# Altium footprint library MCB.PcbLib: 31 footprints (part 1 of 2)
Each footprint in its own frame and in the unit in brackets; x right, y up, seen from the top. Pads: shape width x height; smd on the part's side, far side on the other; paste and mask are expansions set on the pad; w line width, h text height; cw(c..) or ccw(c..) is an arc to the next point about the centre after c.
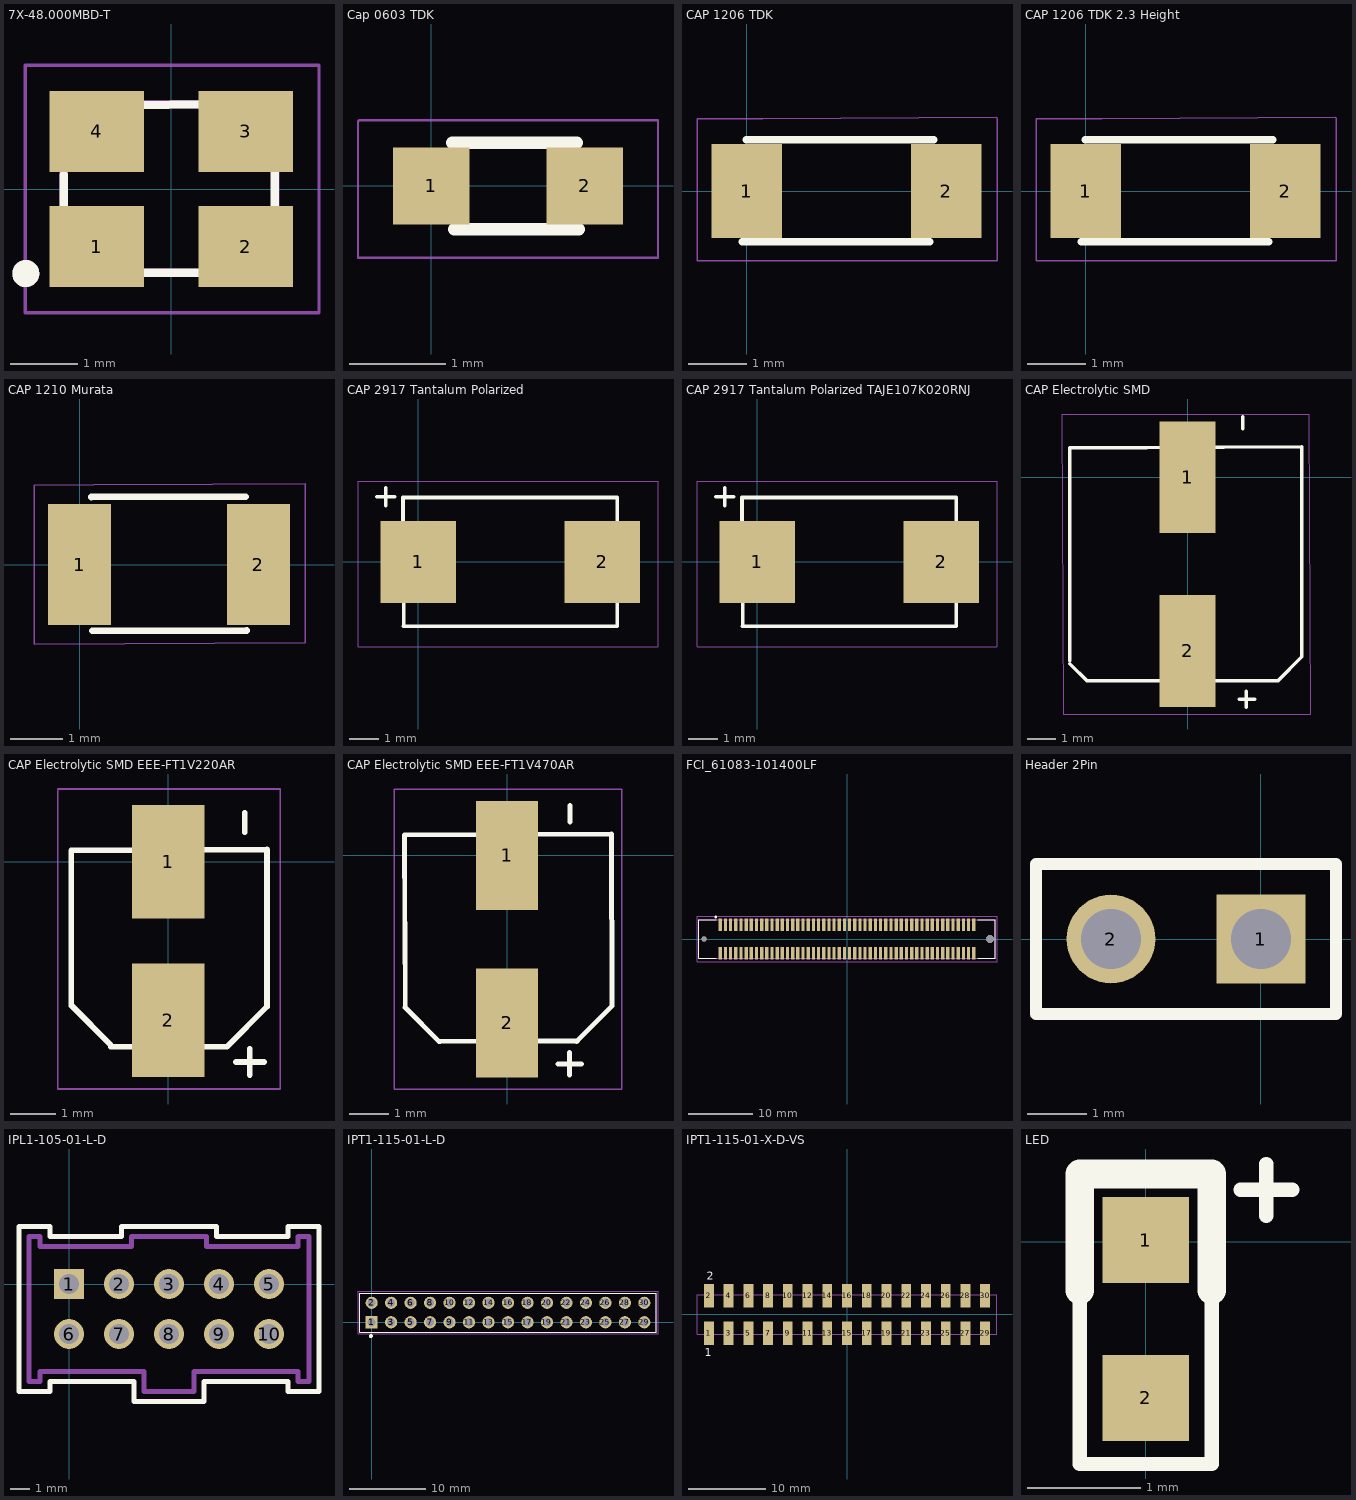
[diagram p0: the footprints below, top view; thin cyan lines are the x and y axes]

## 7X-48.000MBD-T [mm]
pads (4):
  rect 1.4x1.2 smd: 1(-1.1,-0.85) 2(1.1,-0.85) 3(1.1,0.85) 4(-1.1,0.85)
Top Overlay:
  circle w0.2: c-2.15,-1.25 r0.1
  lines w0.127: -1.59,-1.24 1.54,-1.24 ; -1.59,-0.29 -1.59,0.21 ; -1.59,1.24 1.54,1.25 ; 1.53,-0.26 1.53,0.24
Mechanical 13:
  circle w0.2: c-2.15,-1.25 r0.1
  lines w0.127: -1.59,1.24 -1.59,0.302 -1.59,-1.24 1.33,-1.24 ; -1.59,1.25 1.54,1.25 1.54,-1.21
Mechanical 15:
  lines w0.05: -2.159,-1.829 -2.159,1.829 2.184,1.829 2.184,-1.829 -2.159,-1.829
3D body: height 1, standoff 0, extent -1.59,-1.24 1.54,1.25

## Cap 0603 TDK [mm]
pads (2):
  rect 0.8x0.8 smd: 1(0,0) 2(1.6,0)
Top Overlay:
  lines w0.127: 0.22,0.45 1.52,0.45 ; 0.24,-0.45 1.54,-0.45
Mechanical 16:
  lines w0.025: -0.762,-0.749 -0.762,0.673 -0.749,0.686 -0.508,0.686 2.362,0.686 2.362,-0.749 -0.762,-0.749
3D body: height 0.9, standoff 0, extent 0.001,-0.4 1.6,0.4

## CAP 1206 TDK [mm]
pads (2):
  rect 1.2x1.6 smd: 1(0,0) 2(3.4,0)
Top Overlay:
  lines w0.127: -0.076,-0.864 3.124,-0.864 ; -0.014,0.873 3.186,0.873
Mechanical 16:
  lines w0.025: 4.267,-1.188 2.282,-1.188 -0.85,-1.188 -0.85,1.232 0.275,1.232 4.267,1.257 ; 4.267,-1.185 4.267,-0.576 4.267,0.642 4.267,1.251
3D body: height 1.9, standoff 0, extent 0,-0.8 3.2,0.8

## CAP 1206 TDK 2.3 Height [mm]
pads (2):
  rect 1.2x1.6 smd: 1(0,0) 2(3.4,0)
Top Overlay:
  lines w0.127: -0.076,-0.864 3.124,-0.864 ; -0.014,0.873 3.186,0.873
Mechanical 16:
  lines w0.025: 4.267,-1.188 2.282,-1.188 -0.85,-1.188 -0.85,1.232 0.275,1.232 4.267,1.257 ; 4.267,-1.185 4.267,-0.576 4.267,0.642 4.267,1.251
3D body: height 2.3, standoff 0, extent 0,-0.837 3.2,0.837

## CAP 1210 Murata [mm]
pads (2):
  rect 1.2x2.3 smd: 1(0,0) 2(3.4,0)
Top Overlay:
  lines w0.127: 0.225,1.285 3.16,1.29 ; 0.242,-1.255 3.177,-1.251
Mechanical 16:
  lines w0.025: -0.864,-1.512 -0.864,1.51 0.267,1.516 2.527,1.528 4.293,1.538 4.293,-1.484 -0.864,-1.512
3D body: height 2.7, standoff 0, extent 0.008,-1.25 3.2,1.25

## CAP 2917 Tantalum Polarized [mm]
pads (2):
  rect 2.55x2.77 smd: 1(0,0) 2(6.22,0)
Top Overlay:
  lines w0.127: -1.4,2.2 -0.8,2.2 ; -1.1,1.9 -1.1,2.5 ; -0.525,2.177 6.718,2.177 6.718,-2.151 ; -0.519,2.165 -0.497,-2.169 ; -0.5,-2.176 6.708,-2.175
Mechanical 16:
  lines w0.025: -2.041,-2.875 8.092,-2.875 ; -2.041,-2.869 -2.041,2.731 8.092,2.731 ; 8.098,-2.875 8.098,2.725
3D body: height 3, standoff 0, extent -0.543,-2.14 6.736,2.177

## CAP 2917 Tantalum Polarized TAJE107K020RNJ [mm]
pads (2):
  rect 2.55x2.77 smd: 1(0,0) 2(6.22,0)
Top Overlay:
  lines w0.127: -1.4,2.2 -0.8,2.2 ; -1.1,1.9 -1.1,2.5 ; -0.525,2.177 6.718,2.177 6.718,-2.151 ; -0.519,2.165 -0.497,-2.169 ; -0.5,-2.176 6.708,-2.175
Mechanical 16:
  lines w0.025: -2.041,-2.875 8.092,-2.875 ; -2.041,-2.869 -2.041,2.731 8.092,2.731 ; 8.098,-2.875 8.098,2.725
3D body: height 4.3, standoff 0, extent -0.543,-2.14 6.736,2.177

## CAP Electrolytic SMD [mm]
pads (2):
  rect 2x4 smd: 1(0,0) 2(0,-6.2)
Top Overlay:
  lines w0.025: -4.207,-6.662 -4.207,-6.56 -4.207,-6.662
  lines w0.127: -4.207,-6.662 -3.591,-7.278 3.222,-7.278 4.082,-6.418 4.082,1.088 ; -4.207,-6.56 -4.207,1.046 4.075,1.088 ; 1.84,-7.93 2.4,-7.93 ; 1.97,1.74 1.97,2.17 ; 2.087,-8.22 2.087,-7.64
Mechanical 16:
  lines w0.025: -4.493,2.261 4.32,2.261 4.377,-8.458 -4.435,-8.458 -4.493,2.261
3D body: height 0.25, standoff 0, extent -0.102,-1.194 -0.102,-1.194
3D body: height 10.5, standoff 0, extent -4.08,-7.074 3.92,0.92

## CAP Electrolytic SMD EEE-FT1V220AR [mm]
pads (2):
  rect 1.6x2.5 smd: 1(0,0) 2(0,-3.5)
Top Overlay:
  lines w0.127: -2.133,-3.177 -2.133,0.245 ; -2.126,-3.177 -1.264,-4.04 ; -2.124,0.245 2.176,0.267 ; -1.264,-4.077 1.295,-4.077 2.177,-3.196 2.177,0.261 ; 1.494,-4.414 2.111,-4.414 ; 1.688,0.646 1.688,1.076 ; 1.798,-4.704 1.798,-4.125
Mechanical 16:
  lines w0.038: -2.431,-5.011 -2.431,1.584 ; -2.431,1.6 2.468,1.6 ; -2.43,-5.011 2.47,-5.011 ; 2.468,-5.011 2.468,1.59
3D body: height 0.25, standoff 0, extent -0.102,-1.194 -0.102,-1.194
3D body: height 6, standoff 0, extent -1.949,-3.756 2.051,0.244

## CAP Electrolytic SMD EEE-FT1V470AR [mm]
pads (2):
  rect 1.6x2.8 smd: 1(0,0) 2(0,-4.3)
Top Overlay:
  lines w0.127: -2.632,0.507 -2.61,-3.902 ; -2.633,0.517 2.676,0.544 ; -2.618,-3.902 -1.741,-4.779 ; -1.72,-4.779 0.824,-4.767 ; 0.803,-4.766 1.815,-4.766 ; 1.301,-5.35 1.918,-5.35 ; 1.605,-5.64 1.605,-5.06 ; 1.612,0.852 1.612,1.282 ; 1.787,-4.773 2.678,-3.882 ; 2.675,0.549 2.697,-3.859
Mechanical 16:
  lines w0.038: -2.896,-5.994 -2.896,1.702 2.946,1.702 2.946,-5.994 -2.896,-5.994
3D body: height 0.25, standoff 0, extent -0.102,-1.194 -0.102,-1.194
3D body: height 6, standoff 0, extent -2.443,-4.59 2.557,0.404

## FCI_61083-101400LF [mm]
pads (102):
  rect 0.5x2 smd: 1(-19.6,2.2) 2(-19.6,-2.2) 3(-18.8,2.2) 4(-18.8,-2.2) 5(-18,2.2) 6(-18,-2.2) 7(-17.2,2.2) 8(-17.2,-2.2) 9(-16.4,2.2) 10(-16.4,-2.2) 11(-15.6,2.2) 12(-15.6,-2.2) 13(-14.8,2.2) 14(-14.8,-2.2) 15(-14,2.2) 16(-14,-2.2) 17(-13.2,2.2) 18(-13.2,-2.2) 19(-12.4,2.2) 20(-12.4,-2.2) 21(-11.6,2.2) 22(-11.6,-2.2) 23(-10.8,2.2) 24(-10.8,-2.2) 25(-10,2.2) 26(-10,-2.2) 27(-9.2,2.2) 28(-9.2,-2.2) 29(-8.4,2.2) 30(-8.4,-2.2) 31(-7.6,2.2) 32(-7.6,-2.2) 33(-6.8,2.2) 34(-6.8,-2.2) 35(-6,2.2) 36(-6,-2.2) 37(-5.2,2.2) 38(-5.2,-2.2) 39(-4.4,2.2) 40(-4.4,-2.2) 41(-3.6,2.2) 42(-3.6,-2.2) 43(-2.8,2.2) 44(-2.8,-2.2) 45(-2,2.2) 46(-2,-2.2) 47(-1.2,2.2) 48(-1.2,-2.2) 49(-0.4,2.2) 50(-0.4,-2.2) 51(0.4,2.2) 52(0.4,-2.2) 53(1.2,2.2) 54(1.2,-2.2) 55(2,2.2) 56(2,-2.2) 57(2.8,2.2) 58(2.8,-2.2) 59(3.6,2.2) 60(3.6,-2.2) 61(4.4,2.2) 62(4.4,-2.2) 63(5.2,2.2) 64(5.2,-2.2) 65(6,2.2) 66(6,-2.2) 67(6.8,2.2) 68(6.8,-2.2) 69(7.6,2.2) 70(7.6,-2.2) 71(8.4,2.2) 72(8.4,-2.2) 73(9.2,2.2) 74(9.2,-2.2) 75(10,2.2) 76(10,-2.2) 77(10.8,2.2) 78(10.8,-2.2) 79(11.6,2.2) 80(11.6,-2.2) 81(12.4,2.2) 82(12.4,-2.2) 83(13.2,2.2) 84(13.2,-2.2) 85(14,2.2) 86(14,-2.2) 87(14.8,2.2) 88(14.8,-2.2) 89(15.6,2.2) 90(15.6,-2.2) 91(16.4,2.2) 92(16.4,-2.2) 93(17.2,2.2) 94(17.2,-2.2) 95(18,2.2) 96(18,-2.2) 97(18.8,2.2) 98(18.8,-2.2) 99(19.6,2.2) 100(19.6,-2.2)
  round 0.8 hole 0.8 unplated: ""(-22.1,0)
  round 1.2 hole 1.2 unplated: ""(22.1,0)
Top Overlay:
  circle w0.2: c-20.3,3.4 r0.1
  lines w0.127: -20.2,-3 -22.9,-3 -22.9,3 -20.2,3 ; 20.2,-3 22.9,-3 22.9,3 20.2,3
Mechanical 13:
  lines w0.127: -22.9,-3 -22.9,3 22.9,3 22.9,-3 -22.9,-3
  text "2" at -19.771,-3.814 h0.41
  text "1" at -19.863,3.505 h0.41
Mechanical 15:
  lines w0.05: -23.2,-3.5 23.2,-3.5 23.2,3.5 -23.2,3.5 -23.2,-3.5
3D body: height 3.7, standoff 0, extent -20.091,-2.976 20.396,2.997

## Header 2Pin [mm]
pads (2):
  rect 1.5x1.5 hole 1.016: 1(0,0)
  round 1.5 hole 1.016: 2(-2.54,0)
Top Overlay:
  lines w0.2: -3.81,-1.27 1.27,-1.27 1.27,1.27 -3.81,1.27 -3.81,-1.27
3D body: height 3.05, standoff 0, extent -0.362,-0.365 0.296,0.294
3D body: height 3.05, standoff 0, extent -2.867,-0.329 -2.21,0.33
3D body: height 2.54, standoff 0, extent -3.732,-1.168 1.27,1.181
3D body: height 8.38, standoff 2.54, extent -0.405,-0.443 0.354,0.317
3D body: height 8.38, standoff 2.54, extent -2.918,-0.38 -2.159,0.38

## IPL1-105-01-L-D [mil] "Discrete wire header"
pads (10):
  rect 60x60 hole 40 mask+3: 1(0,0)
  round 60 hole 40 mask+3: 2(100,0) 3(200,0) 4(300,0) 6(0,-100) 7(100,-100) 8(200,-100) 9(300,-100) 10(400,-100)
  round 60 hole 40: 5(400,0)
Top Overlay:
  lines w10: -100,-215 -100,115 -38,115 -38,95 105,95 105,115 295,115 295,95 438,95 438,115 500,115 500,-215 438,-215 438,-195 270,-195 270,-235 130,-235 130,-195 -38,-195 -38,-215 -100,-215
Mechanical 15:
  lines w10: -80,-195 -58,-195 -58,-175 150,-175 150,-215 250,-215 250,-175 458,-175 458,-195 480,-195 480,95 458,95 458,75 275,75 275,95 125,95 125,75 -58,75 -58,95 -80,95 -80,-195
3D body: height 320, standoff 0, extent -95,-215 482,115
3D body: height 120, standoff 0, extent -12.89,-12.97 13,12.98
3D body: height 120, standoff 0, extent 81.88,-12.45 107.77,13.49
3D body: height 120, standoff 0, extent 181.88,-12.45 207.77,13.49
3D body: height 120, standoff 0, extent 281.88,-12.45 307.77,13.49
3D body: height 120, standoff 0, extent 381.88,-12.45 407.77,13.49
3D body: height 120, standoff 0, extent 381.88,-112.45 407.77,-86.51
3D body: height 120, standoff 0, extent 281.88,-112.45 307.77,-86.51
3D body: height 120, standoff 0, extent 181.88,-112.45 207.77,-86.51
3D body: height 120, standoff 0, extent 81.88,-112.45 107.77,-86.51
3D body: height 120, standoff 0, extent -18.12,-112.45 7.77,-86.51

## IPT1-115-01-L-D [mm]
pads (30):
  rect 1.59x1.59 hole 1.06: 1(0,0)
  round 1.59 hole 1.06: 2(0,2.54) 3(2.54,0) 4(2.54,2.54) 5(5.08,0) 6(5.08,2.54) 7(7.62,0) 8(7.62,2.54) 9(10.16,0) 10(10.16,2.54) 11(12.7,0) 12(12.7,2.54) 13(15.24,0) 14(15.24,2.54) 15(17.78,0) 16(17.78,2.54) 17(20.32,0) 18(20.32,2.54) 19(22.86,0) 20(22.86,2.54) 21(25.4,0) 22(25.4,2.54) 23(27.94,0) 24(27.94,2.54) 25(30.48,0) 26(30.48,2.54) 27(33.02,0) 28(33.02,2.54) 29(35.56,0) 30(35.56,2.54)
Top Overlay:
  circle w0.3: c-0.1,-1.8 r0.1
  lines w0.127: -1.52,-1.27 -1.52,3.81 37.08,3.81 37.08,-1.27 -1.52,-1.27
Mechanical 13:
  lines w0.127: -1.52,-1.27 37.08,-1.27 37.08,3.81 -1.52,3.81 -1.52,-1.27
Mechanical 15:
  lines w0.05: -1.78,-1.52 37.34,-1.52 37.34,4.06 -1.78,4.06 -1.78,-1.52
3D body: height 2.16, standoff 0, extent -0.289,-0.342 0.343,0.292
3D body: height 2.16, standoff 0, extent 2.251,-0.342 2.883,0.292
3D body: height 2.16, standoff 0, extent 4.791,-0.342 5.423,0.292
3D body: height 2.16, standoff 0, extent 7.331,-0.342 7.963,0.292
3D body: height 2.16, standoff 0, extent 9.871,-0.342 10.503,0.292
3D body: height 2.16, standoff 0, extent 12.411,-0.342 13.043,0.292
3D body: height 2.16, standoff 0, extent 14.951,-0.342 15.583,0.292
3D body: height 2.16, standoff 0, extent 17.491,-0.342 18.123,0.292
3D body: height 2.16, standoff 0, extent 20.031,-0.342 20.663,0.292
3D body: height 2.16, standoff 0, extent 22.571,-0.342 23.203,0.292
3D body: height 2.16, standoff 0, extent 25.111,-0.342 25.743,0.292
3D body: height 2.16, standoff 0, extent 27.651,-0.342 28.283,0.292
3D body: height 2.16, standoff 0, extent 30.191,-0.342 30.823,0.292
3D body: height 2.16, standoff 0, extent 32.731,-0.342 33.363,0.292
3D body: height 2.16, standoff 0, extent 35.271,-0.342 35.903,0.292
3D body: height 2.16, standoff 0, extent 35.271,2.198 35.903,2.832
3D body: height 2.16, standoff 0, extent 32.731,2.198 33.363,2.832
3D body: height 2.16, standoff 0, extent 30.191,2.198 30.823,2.832
3D body: height 2.16, standoff 0, extent 27.651,2.198 28.283,2.832
3D body: height 2.16, standoff 0, extent 25.111,2.198 25.743,2.832
3D body: height 2.16, standoff 0, extent 22.571,2.198 23.203,2.832
3D body: height 2.16, standoff 0, extent 20.031,2.198 20.663,2.832
3D body: height 2.16, standoff 0, extent 17.491,2.198 18.123,2.832
3D body: height 2.16, standoff 0, extent 14.951,2.198 15.583,2.832
3D body: height 2.16, standoff 0, extent 12.411,2.198 13.043,2.832
3D body: height 2.16, standoff 0, extent 9.871,2.198 10.503,2.832
3D body: height 2.16, standoff 0, extent 7.331,2.198 7.963,2.832
3D body: height 2.16, standoff 0, extent 4.791,2.198 5.423,2.832
3D body: height 2.16, standoff 0, extent 2.251,2.198 2.883,2.832
3D body: height 2.16, standoff 0, extent -0.289,2.198 0.343,2.832
3D body: height 6.35, standoff 0, extent -1.471,-1.278 37.112,3.777

## IPT1-115-01-X-D-VS [mil]
pads (30):
  rect 50x120 smd: 1(-700,-95) 2(-700,95) 3(-600,-95) 4(-600,95) 5(-500,-95) 6(-500,95) 7(-400,-95) 8(-400,95) 9(-300,-95) 10(-300,95) 11(-200,-95) 12(-200,95) 13(-100,-95) 14(-100,95) 15(0,-95) 16(0,95) 17(100,-95) 18(100,95) 19(200,-95) 20(200,95) 21(300,-95) 22(300,95) 23(400,-95) 24(400,95) 25(500,-95) 26(500,95) 27(600,-95) 28(600,95) 29(700,-95) 30(700,95)
Top Overlay:
  text "1" at -720.98,-210.29 h40.05
  text "2" at -711.09,175.27 h40.06
Mechanical 13:
  lines w5: -760,-100 760,-100 760,100 -760,100 -760,-100
3D body: height 250, standoff 0, extent -760,-99 759,100

## LED [mil]
pads (2):
  rect 30x30 smd: 1(0,0.5) 2(0,-54.5)
Top Overlay:
  lines w5: 33,18 51,18 ; 42,9 42,27 ; -23,-77.5 23,-77.5 23,23.5 -23,23.5 -23,-77.5
  lines w10: -23,-17 -23,23.5 23,23.5 23,-17
3D body: height 25.59, standoff 0, extent -15.75,-62.47 15.75,0.47